# Altium footprint library RES_CHIP_8PK_0402_PAN.PcbLib: 1 footprints
Each footprint in its own frame and in the unit in brackets; x right, y up, seen from the top. Pads: shape width x height; smd on the part's side, far side on the other; paste and mask are expansions set on the pad; w line width, h text height; cw(c..) or ccw(c..) is an arc to the next point about the centre after c.
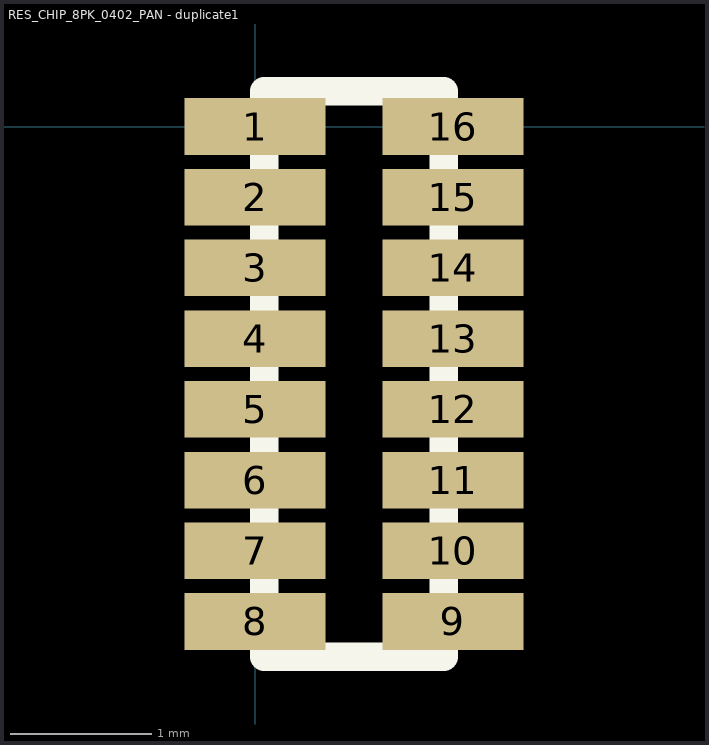
[diagram p0: the footprint, top view; thin cyan lines are the x and y axes]

## RES_CHIP_8PK_0402_PAN - duplicate1 [mm]
pads (16):
  rect 1x0.4 smd mask+0.03: 1(0,0) 2(0,-0.5) 3(0,-1) 4(0,-1.5) 5(0,-2) 6(0,-2.5) 7(0,-3) 8(0,-3.5) 9(1.4,-3.5) 10(1.4,-3) 11(1.4,-2.5) 12(1.4,-2) 13(1.4,-1.5) 14(1.4,-1) 15(1.4,-0.5) 16(1.4,0)
Top Overlay:
  lines w0.2: 0.575,0.25 1.335,0.25 1.335,-3.75 1.017,-3.75 0.383,-3.75 0.065,-3.75 0.065,0.25 0.825,0.25
3D body: height 0.46, standoff 0, extent -0.1,-3.656 1.5,0.144